# Altium footprint library GY-521.PcbLib: 1 footprints
Each footprint in its own frame and in the unit in brackets; x right, y up, seen from the top. Pads: shape width x height; smd on the part's side, far side on the other; paste and mask are expansions set on the pad; w line width, h text height; cw(c..) or ccw(c..) is an arc to the next point about the centre after c.
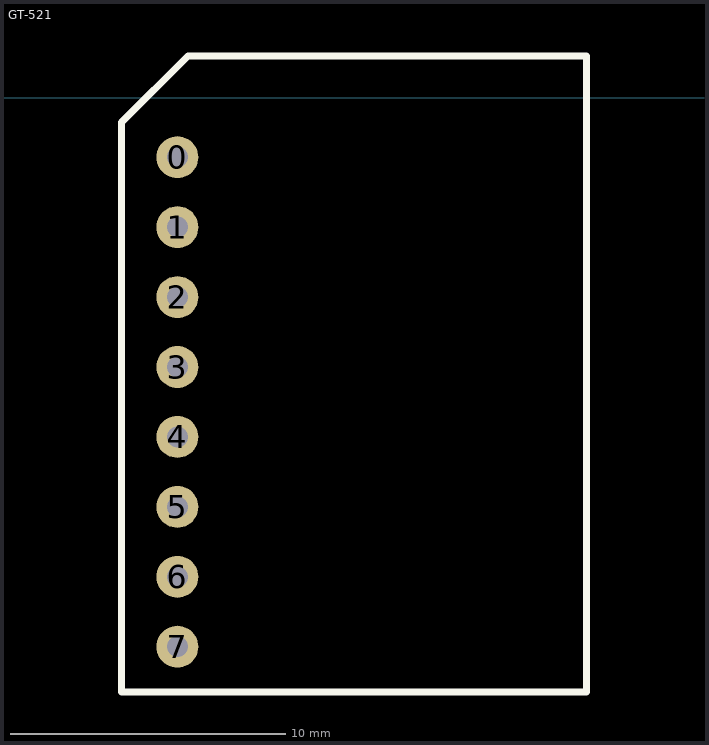
[diagram p0: the footprint, top view; thin cyan lines are the x and y axes]

## GT-521 [mil]
pads (8):
  round 60 hole 30: 0(-1360,-85) 1(-1360,-185) 2(-1360,-285) 3(-1360,-385) 4(-1360,-485) 5(-1360,-585) 6(-1360,-685) 7(-1360,-785)
Top Overlay:
  lines w10: -1440,-850 -775,-850 -775,60 -1345,60 -1440,-35 -1440,-850